# Altium footprint library PcbLib1.PcbLib: 21 footprints (part 2 of 2)
Each footprint in its own frame and in the unit in brackets; x right, y up, seen from the top. Pads: shape width x height; smd on the part's side, far side on the other; paste and mask are expansions set on the pad; w line width, h text height; cw(c..) or ccw(c..) is an arc to the next point about the centre after c.
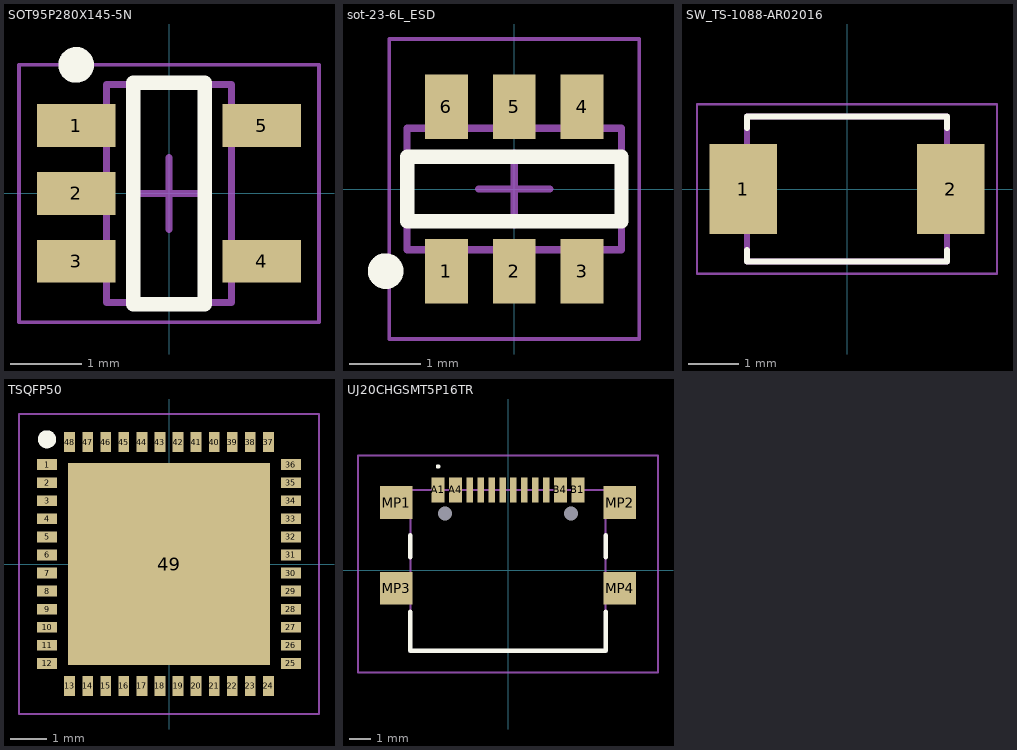
[diagram p1: the footprints below, top view; thin cyan lines are the x and y axes]

## SOT95P280X145-5N [mm] "SOT23, 5-Leads, Body 2,90x2,80mm, Pitch 0,95mm, IPC Medium Density"
height 1.45
pads (5):
  rect 1.1x0.6 smd: 1(-1.3,0.95) 2(-1.3,0) 3(-1.3,-0.95) 4(1.3,-0.95) 5(1.3,0.95)
Top Overlay:
  circle w0.25: c-1.3,1.8 r0.125
  lines w0.2: -0.5,-1.55 0.5,-1.55 0.5,1.55 -0.5,1.55 -0.5,-1.55
Top Assembly:
  lines w0.1: -0.875,-1.525 -0.875,1.525 0.875,1.525 0.875,-1.525 -0.875,-1.525
Mechanical 15:
  lines w0.05: -2.1,-1.8 -2.1,1.8 2.1,1.8 2.1,-1.8 -2.1,-1.8
  lines w0.1: -0.5,0 0.5,0 ; 0,-0.5 0,0.5
3D body "SOT95P280X145-5N.step": height 1.45, standoff 0, extent -1.5,-1.525 1.5,1.525

## sot-23-6L_ESD [mm] "SOT23, 6-Leads, Body 2,90x2,80mm, Pitch 0,95mm, IPC Medium Density"
height 1.2
pads (6):
  rect 0.6x0.9 smd: 1(-0.95,-1.15) 2(0,-1.15) 3(0.95,-1.15) 4(0.95,1.15) 5(0,1.15) 6(-0.95,1.15)
Top Overlay:
  circle w0.25: c-1.8,-1.15 r0.125
  lines w0.2: -1.5,-0.45 -1.5,0.45 1.5,0.45 1.5,-0.45 0.75,-0.45 -0.75,-0.45 -1.5,-0.45
Top Assembly:
  lines w0.1: -1.5,-0.85 -1.5,0.85 1.5,0.85 1.5,-0.85 -1.5,-0.85
Mechanical 15:
  lines w0.05: -1.75,-2.1 -1.75,2.1 1.75,2.1 1.75,-2.1 -1.75,-2.1
  lines w0.1: -0.5,0 0.5,0 ; 0,-0.5 0,0.5
3D body "SRV05-4L-TP.stp": height 1.11, standoff -0.05, extent -1.5,-1.475 1.5,1.525

## SW_TS-1088-AR02016 [mm]
height 2
pads (2):
  rect 1.35x1.8 smd: 1(-2.075,0) 2(2.075,0)
Top Overlay:
  lines w0.127: -2,-1.22 -2,-1.45 2,-1.45 2,-1.22 ; -2,1.22 -2,1.45 2,1.45 2,1.22
Mechanical 13:
  lines w0.127: -2,-1.45 -2,1.45 2,1.45 2,-1.45 -2,-1.45
Mechanical 15:
  lines w0.05: -3,-1.7 3,-1.7 3,1.7 -3,1.7 -3,-1.7
3D body "step_temp.STEP": height 2, standoff 0, extent -2.4,-1.45 2.4,1.45

## TSQFP50 [mm] "TSQFP, 48-Leads, Body 5,50x5,50mm, Pitch 0,50mm, Thermal Pad 5,60x5,60mm, IPC Medium Density"
height 0.6
pads (49):
  rect 0.55x0.3 smd mask+0.025: 1(-3.375,2.75) 2(-3.375,2.25) 3(-3.375,1.75) 4(-3.375,1.25) 5(-3.375,0.75) 6(-3.375,0.25) 7(-3.375,-0.25) 8(-3.375,-0.75) 9(-3.375,-1.25) 10(-3.375,-1.75) 11(-3.375,-2.25) 12(-3.375,-2.75) 25(3.375,-2.75) 26(3.375,-2.25) 27(3.375,-1.75) 28(3.375,-1.25) 29(3.375,-0.75) 30(3.375,-0.25) 31(3.375,0.25) 32(3.375,0.75) 33(3.375,1.25) 34(3.375,1.75) 35(3.375,2.25) 36(3.375,2.75)
  rect 0.3x0.55 smd mask+0.025: 13(-2.75,-3.375) 14(-2.25,-3.375) 15(-1.75,-3.375) 16(-1.25,-3.375) 17(-0.75,-3.375) 18(-0.25,-3.375) 19(0.25,-3.375) 20(0.75,-3.375) 21(1.25,-3.375) 22(1.75,-3.375) 23(2.25,-3.375) 24(2.75,-3.375) 37(2.75,3.375) 38(2.25,3.375) 39(1.75,3.375) 40(1.25,3.375) 41(0.75,3.375) 42(0.25,3.375) 43(-0.25,3.375) 44(-0.75,3.375) 45(-1.25,3.375) 46(-1.75,3.375) 47(-2.25,3.375) 48(-2.75,3.375)
  rect 5.6x5.6 smd: 49(0,0)
Top Overlay:
  circle w0.25: c-3.375,3.45 r0.125
Mechanical 13:
  circle w0.1: c-1.85,1.85 r0.5
  lines w0.1: -2.75,-2.75 2.75,-2.75 2.75,2.75 -2.75,2.75 -2.75,-2.75
Mechanical 15:
  lines w0.05: -4.15,-4.15 4.15,-4.15 4.15,4.15 -4.15,4.15 -4.15,-4.15
  lines w0.1: -0.5,0 0.5,0 ; 0,-0.5 0,0.5
3D body "STM32U073CCU6.stp": height 0.6, standoff 0, extent -3.55,-3.55 3.55,3.55

## UJ20CHGSMT5P16TR [mm]
pads (18):
  rect 0.6x1.15 smd: A1(-3.2,3.678) A4(-2.4,3.678) B1(3.2,3.678) B4(2.4,3.678)
  rect 0.3x1.15 smd: A5(-1.25,3.678) A6(-0.25,3.678) A7(0.25,3.678) A8(1.25,3.678) B5(1.75,3.678) B6(0.75,3.678) B7(-0.75,3.678) B8(-1.75,3.678)
  round 0.325 hole 0.65 unplated: MH1(-2.89,2.603) MH2(2.89,2.603)
  rect 1.5x1.5 smd: MP1(-5.12,3.103) MP2(5.12,3.103) MP3(-5.12,-0.827) MP4(5.12,-0.827)
Top Overlay:
  lines w0.1: -3.2,4.7 cw(c-3.2,4.75) -3.2,4.8 cw(c-3.2,4.75) -3.2,4.7
  lines w0.2: -4.47,-1.897 -4.47,-3.678 4.47,-3.678 4.47,-1.897 ; -4.47,0.603 -4.47,1.603 ; 4.47,0.603 4.47,1.603
Mechanical 15:
  lines w0.1: -4.47,-3.678 -4.47,3.673 4.47,3.673 4.47,-3.678 -4.47,-3.678
Mechanical 20:
  lines w0.1: -6.87,-4.678 -6.87,5.252 6.87,5.252 6.87,-4.678 -6.87,-4.678
3D body "UJ20-C-H-G-SMT-5-P16-TR.stp": height 3.18, standoff -0.7, extent -5.67,-3.7 5.67,3.898